# Altium schematic symbol library NanoPI_DUO.SchLib: 1 symbol
Pins are listed as number, name and electrical type; pins without a type are passive.

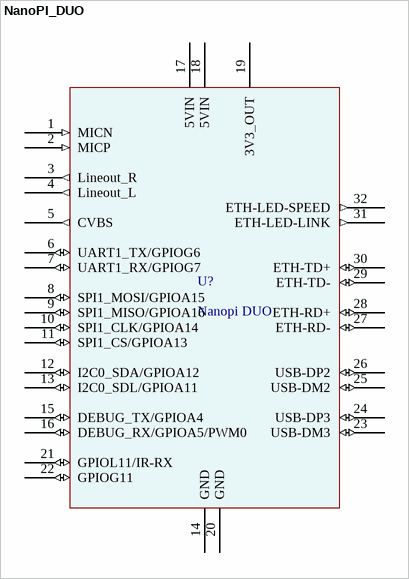
[diagram p0: symbol NanoPI_DUO]

## NanoPI_DUO
designator U?, comment Nanopi DUO
Manufacturer: Friendly ARM; RefManufacturer: Nanopi DUO
footprint NanopiDuoSocket
pins: 1 MICN (in), 2 MICP (in), 3 Lineout_R (out), 4 Lineout_L (out), 5 CVBS (out), 6 UART1_TX/GPIOG6 (io), 7 UART1_RX/GPIOG7 (io), 8 SPI1_MOSI/GPIOA15 (io), 9 SPI1_MISO/GPIOA16 (io), 10 SPI1_CLK/GPIOA14 (io), 11 SPI1_CS/GPIOA13 (io), 12 I2C0_SDA/GPIOA12 (io), 13 I2C0_SDL/GPIOA11 (io), 14 GND (power), 15 DEBUG_TX/GPIOA4 (io), 16 DEBUG_RX/GPIOA5/PWM0 (io), 17 5VIN (power), 18 5VIN (power), 19 3V3_OUT (power), 20 GND (power), 21 GPIOL11/IR-RX (io), 22 GPIOG11 (io), 23 USB-DM3 (io), 24 USB-DP3 (io), 25 USB-DM2 (io), 26 USB-DP2 (io), 27 ETH-RD- (io), 28 ETH-RD+ (io), 29 ETH-TD- (io), 30 ETH-TD+ (io), 31 ETH-LED-LINK (out), 32 ETH-LED-SPEED (out)